# Altium footprint library con-cypressindustries.PCBLIB: 27 footprints (part 1 of 2)
Each footprint in its own frame and in the unit in brackets; x right, y up, seen from the top. Pads: shape width x height; smd on the part's side, far side on the other; paste and mask are expansions set on the pad; w line width, h text height; cw(c..) or ccw(c..) is an arc to the next point about the centre after c.
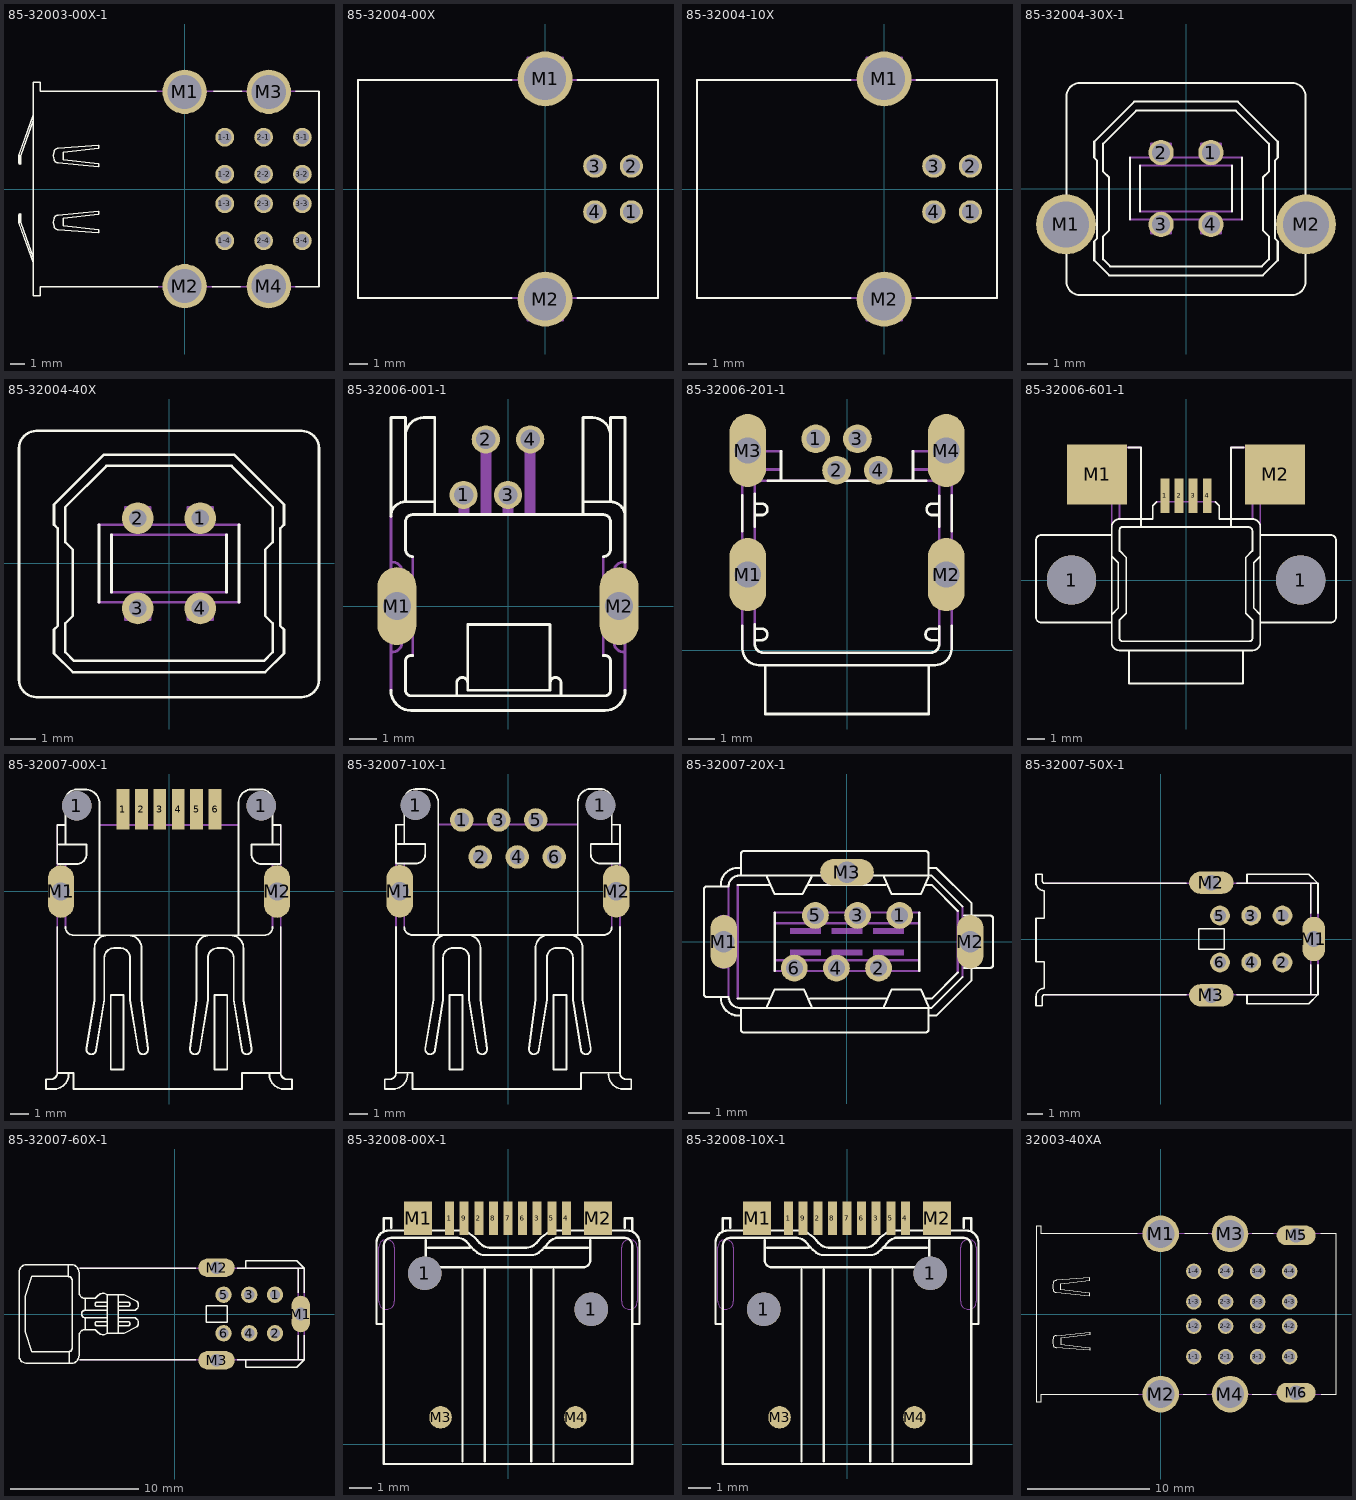
[diagram p0: the footprints below, top view; thin cyan lines are the x and y axes]

## 85-32003-00X-1 [mm]
pads (16):
  round 1.27 hole 0.92: 1-1(2.71,3.5) 1-2(2.71,1) 1-3(2.71,-1) 1-4(2.71,-3.5) 2-1(5.33,3.5) 2-2(5.33,1) 2-3(5.33,-1) 2-4(5.33,-3.5) 3-1(7.95,3.5) 3-2(7.95,1) 3-3(7.95,-1) 3-4(7.95,-3.5)
  round 3 hole 2.3: M1(0,6.57) M2(0,-6.57) M3(5.68,6.57) M4(5.68,-6.57)
Top Overlay:
  lines w0.102: -10.225,-4.625 -11.075,-2.25 -11.075,-1.75 ccw(c-11.137,-1.75) -11.2,-1.75 -11.2,-2.325 -10.225,-4.975 ; -1.925,6.6 -9.775,6.6 -9.775,7.2 -10.225,7.2 -10.225,5 ; -1.825,-6.6 -9.775,-6.6 -9.775,-7.2 -10.225,-7.2 -10.225,-4.975 ; 1.85,-6.6 3.75,-6.6 ; 1.975,6.6 3.85,6.6 ; 7.5,-6.6 9.075,-6.6 9.075,6.6 7.5,6.6 ; -10.225,-4.975 -10.225,4.625 ; -10.225,4.625 -10.225,5 ; -10.225,4.625 -11.075,2.25 -11.075,1.75 cw(c-11.137,1.75) -11.2,1.75 -11.2,2.325 -10.225,5 ; -8.828,-2.544 ccw(c-8.546,-2.457) -8.568,-2.751 -5.817,-2.959 -5.817,-2.751 -8.205,-2.492 -8.205,-1.973 -5.817,-1.713 -5.817,-1.505 -8.568,-1.765 ccw(c-8.546,-2.059) -8.828,-1.973 ccw(c-7.897,-2.258) -8.828,-2.544 ; -8.828,1.973 cw(c-7.897,2.258) -8.828,2.544 cw(c-8.546,2.457) -8.568,2.751 -5.817,2.959 -5.817,2.751 -8.205,2.492 -8.205,1.973 -5.817,1.713 -5.817,1.505 -8.568,1.765 cw(c-8.546,2.059) -8.828,1.973
Mechanical 16:
  lines w0.102: -1.925,6.6 1.975,6.6 ; -1.825,-6.6 1.85,-6.6 ; 3.75,-6.6 7.5,-6.6 ; 3.85,6.6 7.5,6.6

## 85-32004-00X [mm]
pads (6):
  round 1.27 hole 0.92: 1(4.71,-1.25) 2(4.71,1.25) 3(2.71,1.25) 4(2.71,-1.25)
  round 3 hole 2.3: M1(0,6.02) M2(0,-6.02)
Top Overlay:
  lines w0.102: -1.837,-5.962 -10.225,-5.962 -10.225,5.962 -1.837,5.962 ; 1.775,-5.962 6.163,-5.962 6.163,5.962 1.775,5.962
Mechanical 16:
  lines w0.102: -10.225,-5.962 6.163,-5.962 ; -10.225,5.962 6.163,5.962 ; -1.15,-6.012 -0.975,-7.175 0.975,-7.175 1.137,-6.025 ; -1.137,6.025 -0.975,7.175 0.975,7.175 1.15,6.012

## 85-32004-10X [mm]
pads (6):
  round 1.27 hole 0.92: 1(4.71,-1.25) 2(4.71,1.25) 3(2.71,1.25) 4(2.71,-1.25)
  round 3 hole 2.3: M1(0,6.02) M2(0,-6.02)
Top Overlay:
  lines w0.102: -1.837,-5.962 -10.225,-5.962 -10.225,5.962 -1.837,5.962 ; 1.775,-5.962 6.163,-5.962 6.163,5.962 1.775,5.962
Mechanical 16:
  lines w0.102: -10.225,-5.962 6.163,-5.962 ; -10.225,5.962 6.163,5.962 ; -1.15,-6.012 -0.975,-7.175 0.975,-7.175 1.137,-6.025 ; -1.137,6.025 -0.975,7.175 0.975,7.175 1.15,6.012

## 85-32004-30X-1 [mm]
pads (6):
  round 1.27 hole 0.92: 1(1.25,1.8) 2(-1.25,1.8) 3(-1.25,-1.8) 4(1.25,-1.8)
  round 3 hole 2.3: M1(-6.02,-1.8) M2(6.02,-1.8)
Top Overlay:
  lines w0.102: -5.3,5.3 ccw(c-5.3,4.6) -6,4.6 -6,-4.65 ccw(c-5.3,-4.65) -5.3,-5.35 5.3,-5.35 ccw(c5.3,-4.65) 6,-4.65 6,4.6 ccw(c5.3,4.6) 5.3,5.3 -5.25,5.3 ; -2.8,-1.55 -2.8,1.55 ; -2.3,-1.15 -2.3,1.15 ; 2.3,-1.15 2.3,1.15 ; 2.8,-1.55 2.8,1.55 ; -4.6,-3.6 -3.85,-4.35 3.85,-4.35 4.6,-3.6 4.6,-2.65 4.45,-2.5 4.45,1.4 4.6,1.55 4.6,2.35 2.6,4.35 -2.6,4.35 -4.6,2.35 -4.6,1.55 -4.45,1.4 -4.45,-2.5 -4.6,-2.65 -4.6,-3.6 ; -4.15,-3.55 -3.8,-3.9 3.8,-3.9 4.15,-3.55 4.15,-2.4 3.85,-2.1 3.85,0.55 4.15,0.85 4.15,2.25 2.5,3.9 -2.5,3.9 -4.15,2.25 -4.15,0.85 -3.85,0.55 -3.85,-2.1 -4.15,-2.4 -4.15,-3.55
Mechanical 16:
  lines w0.102: -2.8,-1.55 2.8,-1.55 ; -2.8,1.55 2.8,1.55 ; -2.3,-1.15 2.3,-1.15 ; -2.3,1.15 2.3,1.15 ; -1.75,-1.6 -1.75,-2.25 -0.75,-2.25 -0.75,-1.6 ; -1.75,1.6 -1.75,2.25 -0.75,2.25 -0.75,1.6 ; 0.75,-1.6 0.75,-2.25 1.75,-2.25 1.75,-1.6 ; 0.75,1.6 0.75,2.25 1.75,2.25 1.75,1.6

## 85-32004-40X [mil]
pads (4):
  round 50 hole 27.56: 1(49.21,70.87) 2(-49.21,70.87) 3(-49.21,-70.87) 4(49.21,-70.87)
Top Overlay:
  lines w4: -208.66,208.66 ccw(c-208.66,181.1) -236.22,181.1 -236.22,-183.07 ccw(c-208.66,-183.07) -208.66,-210.63 208.66,-210.63 ccw(c208.66,-183.07) 236.22,-183.07 236.22,181.1 ccw(c208.66,181.1) 208.66,208.66 -206.69,208.66 ; -110.24,-61.02 -110.24,61.02 ; -90.55,-45.28 -90.55,45.28 ; 90.55,-45.28 90.55,45.28 ; 110.24,-61.02 110.24,61.02 ; -181.1,-141.73 -151.57,-171.26 151.57,-171.26 181.1,-141.73 181.1,-104.33 175.2,-98.43 175.2,55.12 181.1,61.02 181.1,92.52 102.36,171.26 -102.36,171.26 -181.1,92.52 -181.1,61.02 -175.2,55.12 -175.2,-98.43 -181.1,-104.33 -181.1,-141.73 ; -163.39,-139.76 -149.61,-153.54 149.61,-153.54 163.39,-139.76 163.39,-94.49 151.57,-82.68 151.57,21.65 163.39,33.46 163.39,88.58 98.43,153.54 -98.43,153.54 -163.39,88.58 -163.39,33.46 -151.57,21.65 -151.57,-82.68 -163.39,-94.49 -163.39,-139.76
Mechanical 16:
  lines w4: -110.24,-61.02 110.24,-61.02 ; -110.24,61.02 110.24,61.02 ; -90.55,-45.28 90.55,-45.28 ; -90.55,45.28 90.55,45.28 ; -68.9,-62.99 -68.9,-88.58 -29.53,-88.58 -29.53,-62.99 ; -68.9,62.99 -68.9,88.58 -29.53,88.58 -29.53,62.99 ; 29.53,-62.99 29.53,-88.58 68.9,-88.58 68.9,-62.99 ; 29.53,62.99 29.53,88.58 68.9,88.58 68.9,62.99

## 85-32006-001-1 [mil]
pads (6):
  round 40 hole 27.56: 1(-62.99,157.48) 2(-31.5,236.22) 3(0,157.48) 4(31.5,236.22)
  oval 55.12x110.24 hole 39.37: M1(-157.48,0) M2(157.48,0)
Top Overlay:
  lines w4: -134.89,-70.04 -137.49,-70.04 ccw(c-137.49,-77.83) -145.27,-77.83 -145.27,-119.33 ccw(c-137.49,-119.33) -137.49,-127.11 137.49,-127.11 ccw(c137.49,-119.33) 145.27,-119.33 145.27,-77.83 ccw(c137.5,-77.81) 137.49,-70.04 134.9,-70.04 ; -134.89,70.04 cw(c-134.89,80.42) -145.27,80.42 -145.27,119.33 cw(c-134.9,119.33) -134.89,129.7 106.36,129.7 ; -103.76,132.3 -103.76,147.87 ; -72.63,-124.52 -72.63,-108.95 cw(c-64.85,-108.95) -57.07,-108.95 ; 75.23,-124.52 75.23,-108.95 ccw(c67.45,-108.95) 59.67,-108.95 ; 134.89,70.04 ccw(c134.89,80.42) 145.27,80.42 145.27,119.33 ccw(c134.9,119.33) 134.89,129.7 106.36,129.7 ; 145.28,147.87 cw(c145.28,127.11) 166.03,127.11 ; 166.02,-119.33 cw(c137.49,-119.33) 137.49,-147.87 -137.49,-147.87 cw(c-137.49,-119.33) -166.02,-119.33 ; 166.02,62.26 166.02,267.2 145.27,267.2 145.27,241.26 ; -166.02,-119.33 -166.02,-119.33 ; -166.02,127.11 -166.02,267.2 -145.27,267.2 -145.27,241.26 ; -166.02,127.11 cw(c-145.26,127.11) -145.27,147.87 ; -166.02,127.11 -166.02,127.11 ; -145.27,147.87 -145.27,241.26 ; -145.27,147.87 -103.76,147.87 ; -145.27,241.26 cw(c-119.33,241.26) -119.33,267.2 -103.76,267.2 -103.76,147.87 ; -57.07,-108.95 -57.07,-25.94 59.67,-25.94 59.67,-108.95 ; -57.07,-108.95 -57.07,-119.33 59.67,-119.33 59.67,-108.95 ; 106.36,129.7 106.36,147.87 ; 106.36,147.87 106.36,267.2 119.33,267.2 cw(c119.33,241.26) 145.27,241.26 ; 106.36,147.87 145.27,147.87 145.27,241.26
Mechanical 11:
  lines w0: -177.17,-29.53 ccw(c-157.49,-29.52) -157.48,-49.21 ccw(c-157.48,-29.53) -137.8,-29.53 -137.8,29.53 ccw(c-157.48,29.53) -157.48,49.21 ccw(c-157.49,29.52) -177.17,29.53 -177.17,-29.53 ; 137.8,-29.53 ccw(c157.48,-29.53) 157.48,-49.21 ccw(c157.49,-29.52) 177.17,-29.53 177.17,29.53 ccw(c157.49,29.52) 157.48,49.21 ccw(c157.48,29.53) 137.8,29.53 137.8,-29.53
Mechanical 16:
  rectangle: -70.04,129.71 -54.48,168.62
  rectangle: -7.78,129.71 7.78,168.62
  rectangle: -38.91,129.71 -23.35,246.44
  rectangle: 23.35,129.71 38.91,246.44
  lines w4: -166.02,-119.33 -166.02,127.11 ; -163.43,-64.85 ccw(c-163.43,-51.88) -150.46,-51.89 -150.46,49.29 ccw(c-163.43,49.29) -163.43,62.26 ; -134.89,-70.04 -134.89,70.04 ; 134.9,-70.04 134.9,70.04 ; 163.43,-64.85 cw(c163.43,-51.88) 150.46,-51.88 150.46,49.29 cw(c163.43,49.29) 163.43,62.26 ; 166.02,-119.33 166.02,62.26

## 85-32006-201-1 [mm]
pads (8):
  round 1.1 hole 0.7: 1(-1.2,8.1) 2(-0.4,6.9) 3(0.4,8.1) 4(1.2,6.9)
  oval 1.4x2.8 hole 1: M1(-3.8,2.9) M2(3.8,2.9) M3(-3.8,7.65) M4(3.8,7.65)
Top Overlay:
  lines w0.102: -4.006,0.945 -4.006,0.069 ccw(c-3.371,0.069) -3.371,-0.566 3.371,-0.566 ccw(c3.371,0.069) 4.006,0.069 4.006,0.945 ; -4.006,4.569 -4.006,5.945 ; -3.527,0.989 -3.527,0.23 ccw(c-3.21,0.23) -3.21,-0.087 3.21,-0.087 ccw(c3.21,0.23) 3.527,0.23 3.527,0.924 ; -3.527,4.73 -3.527,5.989 ; -3.484,0.392 -3.266,0.392 ccw(c-3.266,0.61) -3.266,0.827 -3.484,0.827 ; -3.484,5.182 -3.266,5.182 ccw(c-3.266,5.4) -3.266,5.618 -3.484,5.618 ; -3.135,-0.61 -3.135,-2.439 3.135,-2.439 3.135,-0.61 ; -3.027,6.489 3.027,6.489 ; -2.526,6.532 -2.526,7.621 ; 2.526,6.489 2.526,7.621 ; 3.44,0.392 3.222,0.392 cw(c3.222,0.61) 3.222,0.827 3.44,0.827 ; 3.484,5.182 3.266,5.182 cw(c3.266,5.4) 3.266,5.618 3.484,5.618 ; 3.527,4.73 3.527,5.924 ; 4.006,4.569 4.006,5.945
Mechanical 11:
  lines w0: -4.3,2.4 ccw(c-3.8,2.4) -3.8,1.9 ccw(c-3.8,2.4) -3.3,2.4 -3.3,3.4 ccw(c-3.8,3.4) -3.8,3.9 ccw(c-3.8,3.4) -4.3,3.4 -4.3,2.4 ; -4.3,7.15 ccw(c-3.8,7.15) -3.8,6.65 ccw(c-3.8,7.15) -3.3,7.15 -3.3,8.15 ccw(c-3.8,8.15) -3.8,8.65 ccw(c-3.8,8.15) -4.3,8.15 -4.3,7.15 ; 3.3,2.4 ccw(c3.8,2.4) 3.8,1.9 ccw(c3.8,2.4) 4.3,2.4 4.3,3.4 ccw(c3.8,3.4) 3.8,3.9 ccw(c3.8,3.4) 3.3,3.4 3.3,2.4 ; 3.3,7.15 ccw(c3.8,7.15) 3.8,6.65 ccw(c3.8,7.15) 4.3,7.15 4.3,8.15 ccw(c3.8,8.15) 3.8,8.65 ccw(c3.8,8.15) 3.3,8.15 3.3,7.15
Mechanical 16:
  lines w0.102: -4.006,0.069 -4.006,6.445 ; -3.527,0.23 -3.527,6.489 ; -2.569,6.924 -3.527,6.924 ccw(c-3.527,6.445) -4.006,6.445 ; -2.526,7.621 -3.527,7.621 ; 2.526,7.621 3.527,7.621 ; 2.569,6.924 3.527,6.924 ; 3.527,0.23 3.527,6.924 ; 3.527,6.489 -3.527,6.489 ; 3.527,8.666 3.527,6.924 ; 3.571,8.666 4.006,8.666 4.006,6.445 ; 4.006,0.069 4.006,6.445 ; -4.006,6.445 -4.006,8.666 -3.527,8.666 -3.527,7.621 ; -3.527,6.489 -3.527,7.621 ; 3.527,6.924 cw(c3.527,6.445) 4.006,6.445

## 85-32006-601-1 [mm]
pads (8):
  round 2.8 hole 2.8: 1(-6.5,0) 1(6.5,0)
  rect 0.5x1.95 smd: 1(-1.2,4.775) 2(-0.4,4.775) 3(0.4,4.775) 4(1.2,4.775)
  rect 3.4x3.4 smd: M1(-5.05,6) M2(5.05,6)
Top Overlay:
  lines w0.102: -4.221,-2.414 -8.214,-2.414 cw(c-8.214,-2.112) -8.515,-2.112 -8.515,2.257 cw(c-8.214,2.257) -8.214,2.558 -4.221,2.558 ; -3.268,7.53 -2.564,7.53 -2.564,3.462 ; -3.242,-4.071 -3.242,-5.879 3.236,-5.879 3.236,-4.071 ; -1.66,4.442 -1.886,4.216 -1.886,3.462 -2.564,3.462 ; 1.654,4.442 1.88,4.216 1.88,3.462 2.558,3.462 ; 2.634,3.462 3.764,3.462 cw(c3.764,3.01) 4.216,3.01 4.216,2.558 ; 3.262,7.53 2.558,7.53 2.558,3.462 ; 4.215,-1.961 3.839,-1.585 3.839,0.976 4.215,1.353 ; -4.221,-1.961 -4.221,1.353 ; -4.221,-1.961 -4.221,-3.543 ccw(c-3.769,-3.543) -3.769,-3.995 3.764,-3.995 ccw(c3.763,-3.543) 4.215,-3.543 4.216,-2.414 ; -4.221,-1.961 -3.845,-1.585 -3.845,0.976 -4.221,1.353 ; -4.221,1.353 -4.221,3.01 cw(c-3.769,3.01) -3.769,3.462 -2.564,3.462 ; -2.564,3.01 -3.619,3.01 ccw(c-3.619,2.86) -3.769,2.86 -3.769,1.654 -3.393,1.278 -3.393,-1.886 -3.769,-2.263 -3.769,-3.317 ccw(c-3.619,-3.317) -3.619,-3.468 3.613,-3.468 ccw(c3.613,-3.317) 3.764,-3.317 3.764,-2.263 3.387,-1.886 3.387,1.278 3.764,1.654 3.764,2.784 ccw(c3.538,2.784) 3.538,3.01 2.558,3.01 ; -2.564,3.01 2.558,3.01 ; -2.564,3.01 -2.564,3.462 ; 2.558,3.01 2.558,3.462 ; 4.216,-2.414 4.216,2.558 ; 4.216,-2.414 8.208,-2.414 ccw(c8.208,-2.112) 8.51,-2.112 8.51,2.257 ccw(c8.208,2.257) 8.208,2.558 4.216,2.558
Mechanical 16:
  rectangle: -1.4,4.45 -1,5.7
  rectangle: -0.6,4.45 -0.2,5.7
  rectangle: 0.2,4.45 0.6,5.7
  rectangle: 1,4.45 1.4,5.7
  lines w0.102: -6.256,6.777 -6.256,7.229 cw(c-5.954,7.229) -5.954,7.53 -4.221,7.53 ; -6.255,6.777 cw(c-6.255,6.024) -5.502,6.024 cw(c-6.255,6.024) -6.255,5.27 -6.255,4.743 ccw(c-5.954,4.743) -5.954,4.442 -4.221,4.442 ; -4.221,3.01 -4.221,4.442 ; -3.769,3.538 -3.769,7.229 cw(c-3.468,7.229) -3.468,7.53 ; -2.564,7.53 -3.468,7.53 ; -1.66,4.442 1.654,4.442 ; 2.558,7.53 3.462,7.53 ; 3.764,3.462 3.764,7.229 ccw(c3.462,7.229) 3.462,7.53 ; 4.216,3.01 4.216,4.442 ; -4.221,4.442 -4.221,7.53 ; -4.221,7.53 -3.468,7.53 ; 3.462,7.53 4.215,7.53 ; 4.216,4.442 4.216,7.53 ; 4.216,4.442 5.948,4.442 ccw(c5.948,4.743) 6.249,4.743 6.249,5.27 cw(c6.25,6.023) 5.496,6.024 cw(c6.25,6.024) 6.249,6.777 6.249,7.229 ccw(c5.948,7.229) 5.948,7.53 4.216,7.53

## 85-32007-00X-1 [mil]
pads (10):
  round 62.99 hole 62.99: 1(-196.85,183.07) 1(196.85,183.07)
  rect 27.56x86.61 smd: 1(-98.43,175.2) 2(-59.06,175.2) 3(-19.69,175.2) 4(19.69,175.2) 5(59.06,175.2) 6(98.43,175.2)
  oval 56x112 hole 39.37: M1(-230.32,0) M2(230.32,0)
Top Overlay:
  lines w4: -238.13,-75.82 -238.13,-386.54 ; -238.13,59.59 -238.13,141.5 -220.88,141.5 ; -236.65,58.67 -198.2,58.67 ; -234.68,100.09 -176.01,100.09 -176.01,79.38 cw(c-196.72,79.38) -196.72,58.67 ; -220.88,-75.92 ccw(c-203.62,-75.92) -203.62,-93.18 -148.4,-93.18 ; -220.88,100.09 -220.88,141.5 ; -213.97,-389.99 cw(c-245.03,-389.99) -245.04,-421.05 -262.29,-421.05 -262.29,-400.34 -251.94,-400.34 ccw(c-251.94,-386.54) -238.13,-386.54 ; -86.28,-93.19 cw(c-86.28,-120.8) -58.67,-120.8 -58.67,-231.23 -44.86,-334.77 cw(c-55.21,-336.54) -65.57,-338.22 -82.83,-231.23 -82.83,-141.5 ccw(c-103.54,-141.5) -103.54,-120.79 -117.34,-120.79 ccw(c-117.34,-141.5) -138.05,-141.5 -138.05,-231.23 -155.3,-338.22 cw(c-165.66,-336.54) -176.01,-334.77 -158.75,-231.23 -158.75,-120.79 cw(c-131.14,-120.79) -131.14,-93.18 -89.73,-93.18 ; 58.67,-120.79 cw(c86.28,-120.79) 86.28,-93.18 ; 58.68,-117.34 58.68,-231.23 44.87,-334.77 ccw(c55.22,-336.54) 65.58,-338.22 82.83,-231.23 82.83,-141.5 cw(c103.53,-141.5) 103.54,-120.8 117.35,-120.79 cw(c117.35,-141.5) 138.06,-141.5 138.06,-231.23 155.31,-338.22 ccw(c165.67,-336.54) 176.02,-334.77 158.76,-231.23 158.76,-120.79 ccw(c131.15,-120.79) 131.15,-93.18 ; 82.84,-93.18 86.28,-93.18 ; 176.02,217.43 ccw(c176.01,189.83) 148.41,189.82 148.41,-93.18 ; 176.03,217.43 196.72,217.43 cw(c196.73,193.27) 220.89,193.27 220.89,103.54 ; 213.98,-389.99 ccw(c245.04,-389.99) 245.04,-421.05 262.3,-421.05 262.3,-400.34 251.94,-400.34 cw(c251.94,-386.54) 238.14,-386.54 ; 220.89,-75.93 cw(c203.63,-75.92) 203.63,-93.18 148.41,-93.18 ; 220.89,141.5 238.14,141.5 238.14,59.59 ; 234.69,100.09 176.02,100.09 176.02,79.38 ccw(c196.72,79.38) 196.72,58.67 236.66,58.67 ; 238.14,-75.82 238.14,-386.54 ; -238.13,-386.54 -203.62,-386.54 -203.62,-421.05 155.31,-421.05 155.31,-386.54 238.14,-386.54 ; -220.88,141.5 -220.88,193.27 cw(c-196.72,193.27) -196.72,217.43 -176.01,217.43 cw(c-177.74,188.09) -148.4,186.37 -148.4,-93.18 ; -148.4,-93.18 -89.73,-93.18 ; -89.73,-93.18 86.28,-93.18 ; 86.28,-93.18 148.41,-93.18 ; -124.24,-379.64 -96.63,-379.64 -96.63,-220.88 -124.24,-220.88 -124.24,-379.64 ; 96.64,-379.64 96.64,-220.88 124.25,-220.88 124.25,-379.64 96.64,-379.64
Mechanical 11:
  lines w0: -250,-9.84 -250,-29.53 ccw(c-230.32,-29.53) -230.32,-49.21 ccw(c-230.31,-29.52) -210.63,-29.53 -210.63,29.53 ccw(c-230.31,29.52) -230.32,49.21 ccw(c-230.32,29.53) -250,29.53 -250,0 ; 210.63,-9.84 210.63,-29.53 ccw(c230.31,-29.52) 230.32,-49.21 ccw(c230.32,-29.53) 250,-29.53 250,29.53 ccw(c230.32,29.53) 230.32,49.21 ccw(c230.31,29.52) 210.63,29.53 210.63,0
Mechanical 16:
  lines w4: -238.13,-386.54 -238.13,-20.7 ; -238.13,141.5 -238.13,24.16 ; -220.88,-75.92 -220.88,58.67 ; -145.67,141.73 -108.27,141.73 -108.27,187.01 -88.58,187.01 -88.58,141.73 -68.9,141.73 -68.9,187.01 -49.21,187.01 -49.21,141.73 -29.53,141.73 -29.53,187.01 -9.84,187.01 -9.84,141.73 9.84,141.73 9.84,187.01 29.53,187.01 29.53,141.73 49.21,141.73 49.21,187.01 68.9,187.01 68.9,141.73 88.58,141.73 88.58,187.01 108.27,187.01 108.27,141.73 145.67,141.73 ; 220.89,-75.93 220.89,58.67 ; 238.14,-386.54 238.14,-20.7 ; 238.14,141.5 238.14,24.16 ; -238.13,-20.7 -238.13,24.16 ; -238.13,-20.7 -255.39,-20.7 -255.39,24.16 -238.13,24.16 ; 238.14,-20.7 238.14,24.16 ; 238.14,-20.7 255.4,-20.7 255.4,24.16 238.14,24.16

## 85-32007-10X-1 [mil]
pads (10):
  round 62.99 hole 62.99: 1(-196.85,183.07) 1(196.85,183.07)
  round 50 hole 31.5: 1(-98.43,151.57) 2(-59.06,72.83) 3(-19.69,151.57) 4(19.69,72.83) 5(59.06,151.57) 6(98.43,72.83)
  oval 56x112 hole 39.37: M1(-230.32,0) M2(230.32,0)
Top Overlay:
  lines w4: -238.13,-75.82 -238.13,-386.54 ; -238.13,59.59 -238.13,141.5 -220.88,141.5 ; -236.65,58.67 -198.2,58.67 ; -234.68,100.09 -176.01,100.09 -176.01,79.38 cw(c-196.72,79.38) -196.72,58.67 ; -220.88,-75.92 ccw(c-203.62,-75.92) -203.62,-93.18 -148.4,-93.18 ; -220.88,100.09 -220.88,141.5 ; -213.97,-389.99 cw(c-245.03,-389.99) -245.04,-421.05 -262.29,-421.05 -262.29,-400.34 -251.94,-400.34 ccw(c-251.94,-386.54) -238.13,-386.54 ; -86.28,-93.19 cw(c-86.28,-120.8) -58.67,-120.8 -58.67,-231.23 -44.86,-334.77 cw(c-55.21,-336.54) -65.57,-338.22 -82.83,-231.23 -82.83,-141.5 ccw(c-103.54,-141.5) -103.54,-120.79 -117.34,-120.79 ccw(c-117.34,-141.5) -138.05,-141.5 -138.05,-231.23 -155.3,-338.22 cw(c-165.66,-336.54) -176.01,-334.77 -158.75,-231.23 -158.75,-120.79 cw(c-131.14,-120.79) -131.14,-93.18 -89.73,-93.18 ; 58.67,-120.79 cw(c86.28,-120.79) 86.28,-93.18 ; 58.68,-117.34 58.68,-231.23 44.87,-334.77 ccw(c55.22,-336.54) 65.58,-338.22 82.83,-231.23 82.83,-141.5 cw(c103.53,-141.5) 103.54,-120.8 117.35,-120.79 cw(c117.35,-141.5) 138.06,-141.5 138.06,-231.23 155.31,-338.22 ccw(c165.67,-336.54) 176.02,-334.77 158.76,-231.23 158.76,-120.79 ccw(c131.15,-120.79) 131.15,-93.18 ; 82.84,-93.18 86.28,-93.18 ; 176.02,217.43 ccw(c176.01,189.83) 148.41,189.82 148.41,-93.18 ; 176.03,217.43 196.72,217.43 cw(c196.73,193.27) 220.89,193.27 220.89,103.54 ; 213.98,-389.99 ccw(c245.04,-389.99) 245.04,-421.05 262.3,-421.05 262.3,-400.34 251.94,-400.34 cw(c251.94,-386.54) 238.14,-386.54 ; 220.89,-75.93 cw(c203.63,-75.92) 203.63,-93.18 148.41,-93.18 ; 220.89,141.5 238.14,141.5 238.14,59.59 ; 234.69,100.09 176.02,100.09 176.02,79.38 ccw(c196.72,79.38) 196.72,58.67 236.66,58.67 ; 238.14,-75.82 238.14,-386.54 ; -238.13,-386.54 -203.62,-386.54 -203.62,-421.05 155.31,-421.05 155.31,-386.54 238.14,-386.54 ; -220.88,141.5 -220.88,193.27 cw(c-196.72,193.27) -196.72,217.43 -176.01,217.43 cw(c-177.74,188.09) -148.4,186.37 -148.4,-93.18 ; -148.4,-93.18 -89.73,-93.18 ; -89.73,-93.18 86.28,-93.18 ; 86.28,-93.18 148.41,-93.18 ; -124.24,-379.64 -96.63,-379.64 -96.63,-220.88 -124.24,-220.88 -124.24,-379.64 ; 96.64,-379.64 96.64,-220.88 124.25,-220.88 124.25,-379.64 96.64,-379.64
Mechanical 11:
  lines w0: -250,-9.84 -250,-29.53 ccw(c-230.32,-29.53) -230.32,-49.21 ccw(c-230.31,-29.52) -210.63,-29.53 -210.63,29.53 ccw(c-230.31,29.52) -230.32,49.21 ccw(c-230.32,29.53) -250,29.53 -250,0 ; 210.63,-9.84 210.63,-29.53 ccw(c230.31,-29.52) 230.32,-49.21 ccw(c230.32,-29.53) 250,-29.53 250,29.53 ccw(c230.32,29.53) 230.32,49.21 ccw(c230.31,29.52) 210.63,29.53 210.63,0
Mechanical 16:
  lines w4: -238.14,-386.54 -238.14,-20.7 ; -238.14,141.5 -238.14,24.16 ; -220.89,-75.93 -220.89,58.67 ; -145.67,141.73 145.67,141.73 ; 220.88,-75.92 220.88,58.67 ; 238.13,-386.54 238.13,-20.7 ; 238.13,141.5 238.13,24.16 ; -238.14,-20.7 -238.14,24.16 ; -238.14,-20.7 -255.4,-20.7 -255.4,24.16 -238.14,24.16 ; 238.13,-20.7 238.13,24.16 ; 238.13,-20.7 255.39,-20.7 255.39,24.16 238.13,24.16

## 85-32007-20X-1 [mil]
pads (9):
  round 50 hole 31.5: 1(98.43,49.21) 2(59.06,-49.21) 3(19.69,49.21) 4(-19.69,-49.21) 5(-59.06,49.21) 6(-98.43,-49.21)
  oval 50x100 hole 39.37: M1(-230.32,0) M2(230.32,0)
  oval 100x50 hole 39.37: M3(0,129.92)
Top Overlay:
  lines w4: -235.72,106.36 cw(c-204.1,106.36) -204.1,137.98 -201.22,137.98 ; -204.1,-106.36 -143.73,-106.36 ; -204.1,106.36 -143.73,106.36 ; -149.48,-120.74 -135.11,-89.11 -80.49,-89.11 -66.12,-120.74 ; -149.48,120.74 -135.11,89.11 -83.37,89.11 -66.12,120.74 ; -135.11,-54.62 -135.11,54.62 ; -71.87,106.36 71.87,106.36 ; -68.99,-106.36 74.74,-106.36 ; 68.99,-120.74 83.37,-89.11 137.98,-89.11 152.35,-120.74 ; 68.99,120.74 83.36,89.11 137.98,89.11 152.35,120.74 ; 135.11,-54.62 135.11,54.62 ; 146.61,-106.36 158.1,-106.36 ; 146.61,106.36 158.11,106.36 206.97,57.49 ; 155.23,-137.98 166.73,-137.98 232.85,-71.86 232.85,-48.87 ; 155.23,-106.36 158.1,-106.36 ; 155.23,123.61 158.11,123.61 215.6,66.12 ; 155.23,137.98 166.73,137.98 232.85,71.87 232.85,51.74 ; 206.97,-57.49 158.1,-106.36 ; 215.6,-66.11 158.1,-123.61 152.35,-123.61 ; 218.47,-48.87 267.34,-48.87 ccw(c267.34,-43.12) 273.09,-43.12 273.09,43.12 ccw(c267.34,43.12) 267.34,48.87 218.47,48.87 ; -235.72,-103.48 -221.35,-103.48 ccw(c-199.8,-102.06) -198.35,-123.61 ; -235.72,-103.48 -261.59,-103.48 cw(c-261.6,-97.73) -267.34,-97.74 -267.34,97.74 cw(c-261.59,97.74) -261.59,103.49 -221.35,103.49 cw(c-201.22,103.48) -201.22,123.61 -198.35,123.61 ; -235.72,-103.48 ccw(c-202.65,-104.91) -204.09,-137.98 -198.35,-137.98 ; -198.35,-137.98 -198.35,-163.85 ccw(c-192.6,-163.85) -192.6,-169.6 146.61,-169.6 ccw(c146.6,-163.85) 152.35,-163.85 152.35,-123.61 ; -198.35,-137.98 -198.35,-123.61 ; -198.35,-123.61 152.35,-123.61 ; -198.35,-123.61 -198.35,-123.61 ; -198.35,123.61 152.35,123.61 152.35,163.85 ccw(c146.6,163.87) 146.61,169.61 -192.6,169.61 ccw(c-192.6,163.86) -198.35,163.86 -198.35,123.61
Mechanical 11:
  lines w0: -250,-29.53 ccw(c-230.32,-29.53) -230.32,-49.21 ccw(c-230.31,-29.52) -210.63,-29.53 -210.63,29.53 ccw(c-230.31,29.52) -230.32,49.21 ccw(c-230.32,29.53) -250,29.53 -250,-29.53 ; -49.21,127.95 ccw(c-29.53,127.95) -29.53,108.27 29.53,108.27 ccw(c29.53,127.95) 49.21,127.95 ccw(c29.52,127.95) 29.53,147.64 -29.53,147.64 ccw(c-29.52,127.95) -49.21,127.95 ; 210.63,-29.53 ccw(c230.31,-29.52) 230.32,-49.21 ccw(c230.32,-29.53) 250,-29.53 250,29.53 ccw(c230.32,29.53) 230.32,49.21 ccw(c230.31,29.52) 210.63,29.53 210.63,-29.53
Mechanical 16:
  rectangle: -106.36,14.37 -48.87,25.87
  rectangle: -28.75,14.37 28.74,25.87
  rectangle: 48.87,14.37 106.36,25.87
  rectangle: -106.36,-25.87 -48.87,-14.37
  rectangle: -28.75,-25.87 28.74,-14.37
  rectangle: 48.87,-25.87 106.36,-14.37
  lines w4: -221.35,-103.48 -221.35,103.49 ; -204.1,-106.36 -204.1,106.36 ; -135.11,-54.62 135.11,-54.62 ; -135.11,54.62 135.11,54.62 ; -132.23,-34.49 132.23,-34.49 ; -132.23,34.5 132.23,34.5 ; 206.97,-57.49 206.97,57.49 ; 215.6,-66.11 215.6,66.12

## 85-32007-50X-1 [mil]
pads (9):
  round 50 hole 31.5: 1(307.09,59.06) 2(307.09,-59.06) 3(228.35,59.06) 4(228.35,-59.06) 5(149.61,59.06) 6(149.61,-59.06)
  oval 56x112 hole 39.37: M1(385.83,0)
  oval 112x56 hole 39.37: M2(127.95,141.73) M3(127.95,-141.73)
Top Overlay:
  lines w4: -313.54,137.33 -313.54,142.52 ; 64.78,-139.93 -290.22,-139.93 ccw(c-290.23,-147.71) -298,-147.7 -298,-165.84 cw(c-300.59,-165.84) -300.59,-168.43 -313.54,-168.43 -313.54,-145.11 cw(c-292.81,-145.1) -292.82,-124.38 -292.82,-57.01 -313.54,-57.01 -313.54,51.82 -292.82,51.82 -292.82,121.79 cw(c-292.81,142.51) -313.54,142.52 ; 64.78,139.93 -290.22,139.93 cw(c-290.23,147.71) -298,147.7 -298,163.25 -313.54,163.25 -313.54,142.52 ; 191.75,-139.93 396.46,-139.93 ; 191.74,139.93 396.46,139.93 ; 217.67,-142.52 217.67,-163.25 ; 217.67,142.52 217.67,163.25 373.14,163.25 396.46,139.93 ; 378.32,-139.93 378.32,-64.78 ; 378.32,64.78 378.32,137.33 ; 396.46,-64.78 396.46,-139.93 ; 396.46,64.78 396.46,139.93 ; 217.67,-163.25 217.67,-163.25 ; 217.67,-163.25 373.14,-163.25 396.46,-139.93 ; 95.87,-25.91 95.87,25.91 160.66,25.91 160.66,-25.91 95.87,-25.91
Mechanical 11:
  lines w0: 88.58,-141.73 ccw(c108.27,-141.73) 108.27,-161.42 147.64,-161.42 ccw(c147.63,-141.74) 167.32,-141.73 ccw(c147.64,-141.73) 147.64,-122.05 108.27,-122.05 ccw(c108.27,-141.74) 88.58,-141.73 ; 88.58,141.73 ccw(c108.27,141.74) 108.27,122.05 147.64,122.05 ccw(c147.64,141.73) 167.32,141.73 ccw(c147.63,141.74) 147.64,161.42 108.27,161.42 ccw(c108.27,141.73) 88.58,141.73 ; 366.14,-19.69 ccw(c385.82,-19.68) 385.83,-39.37 ccw(c385.83,-19.69) 405.51,-19.69 405.51,19.69 ccw(c385.83,19.69) 385.83,39.37 ccw(c385.82,19.68) 366.14,19.69 366.14,-19.69
Mechanical 16:
  lines w4: -290.22,-139.93 396.46,-139.93 396.46,139.93 -290.22,139.93 ; 378.32,-137.34 378.32,137.33

## 85-32007-60X-1 [mil]
pads (9):
  round 50 hole 31.5: 1(307.09,59.06) 2(307.09,-59.06) 3(228.35,59.06) 4(228.35,-59.06) 5(149.61,59.06) 6(149.61,-59.06)
  oval 56x112 hole 39.37: M1(385.83,0)
  oval 112x56 hole 39.37: M2(127.95,141.73) M3(127.95,-141.73)
Top Overlay:
  lines w4: -457.83,-53.63 -438.67,-114.93 -323.73,-114.93 ; -457.82,-53.63 -457.82,53.64 -438.67,114.94 -325.65,114.94 ; -325.65,149.42 -325.65,114.94 ; -323.73,-149.42 -323.73,-114.94 ; -290.22,-139.93 64.78,-139.93 ; -290.22,139.93 64.78,139.93 ; -208.8,-36.39 -237.53,-36.39 cw(c-237.53,-29.68) -237.53,-22.98 -208.8,-22.98 ; -208.79,-11.49 -273.93,-11.49 ; -208.8,11.5 -273.93,11.5 ; -208.8,22.99 -237.53,22.99 cw(c-237.53,29.7) -237.53,36.4 -208.8,36.4 ; -170.48,-36.39 -143.67,-36.39 ccw(c-143.67,-29.68) -143.67,-22.98 -170.48,-22.98 ; -170.48,-11.49 -126.42,-11.49 cw(c-126.42,-26.82) -111.1,-26.82 cw(c-122.29,-28.4) -116.85,-38.31 -155.16,-59.38 -172.4,-59.38 ; -170.48,11.5 -124.51,11.5 ; -170.48,22.99 -143.67,22.99 ccw(c-143.67,29.7) -143.67,36.4 -170.48,36.4 ; -126.43,11.5 ccw(c-126.42,26.82) -111.1,26.82 ccw(c-122.3,28.41) -116.85,38.32 -155.16,59.39 -172.4,59.39 ; 191.75,-139.93 396.46,-139.93 ; 191.74,139.93 396.46,139.93 ; 217.67,-142.52 217.67,-163.25 ; 217.67,142.52 217.67,163.25 373.14,163.25 396.46,139.93 ; 378.32,-139.93 378.32,-64.78 ; 378.32,64.78 378.32,137.33 ; 396.46,-64.78 396.46,-139.93 ; 396.46,64.78 396.46,139.93 ; -325.65,114.94 cw(c-325.65,103.44) -314.15,103.44 -314.15,-105.35 cw(c-323.73,-105.35) -323.73,-114.93 ; -273.93,-47.89 ccw(c-273.93,-67.04) -293.08,-67.04 -293.08,-126.43 cw(c-317.98,-126.43) -317.98,-151.33 -452.08,-151.33 cw(c-452.08,-126.43) -476.98,-126.43 -476.98,126.43 cw(c-452.08,126.43) -452.08,151.33 -317.99,151.33 cw(c-317.99,126.42) -293.08,126.43 -293.08,67.04 ccw(c-273.93,67.04) -273.93,47.89 ; -273.93,-47.89 -243.28,-47.89 -233.7,-57.46 ccw(c-219.18,-42.95) -206.88,-59.38 ; -273.93,-47.89 -273.93,-11.49 ; -273.93,-11.49 cw(c-273.93,0) -285.42,0 cw(c-273.93,0.01) -273.93,11.5 ; -273.93,11.5 -273.93,47.89 ; -273.93,47.89 -243.28,47.89 -233.7,57.47 cw(c-219.18,42.95) -206.88,59.39 ; -206.88,-59.39 -172.4,-59.39 ; -206.88,-59.39 -206.88,59.39 ; -206.88,59.39 -172.4,59.39 ; -172.4,-59.39 -172.4,59.39 ; 217.67,-163.25 217.67,-163.25 ; 217.67,-163.25 373.14,-163.25 396.46,-139.93 ; 95.87,-25.91 95.87,25.91 160.66,25.91 160.66,-25.91 95.87,-25.91
Mechanical 11:
  lines w0: 88.58,-141.73 ccw(c108.27,-141.73) 108.27,-161.42 147.64,-161.42 ccw(c147.63,-141.74) 167.32,-141.73 ccw(c147.64,-141.73) 147.64,-122.05 108.27,-122.05 ccw(c108.27,-141.74) 88.58,-141.73 ; 88.58,141.73 ccw(c108.27,141.74) 108.27,122.05 147.64,122.05 ccw(c147.64,141.73) 167.32,141.73 ccw(c147.63,141.74) 147.64,161.42 108.27,161.42 ccw(c108.27,141.73) 88.58,141.73 ; 366.14,-19.69 ccw(c385.82,-19.68) 385.83,-39.37 ccw(c385.83,-19.69) 405.51,-19.69 405.51,19.69 ccw(c385.83,19.69) 385.83,39.37 ccw(c385.82,19.68) 366.14,19.69 366.14,-19.69
Mechanical 16:
  lines w4: -290.22,-139.93 396.46,-139.93 396.46,139.93 -290.22,139.93 ; 378.32,-137.34 378.32,137.33

## 85-32008-00X-1 [mm]
pads (15):
  round 1.5 hole 1.5: 1(-3.7,7.6) 1(3.7,6)
  rect 0.4x1.5 smd: 1(-2.6,10.05) 2(-1.3,10.05) 3(1.3,10.05) 4(2.6,10.05) 5(1.95,10.05) 6(0.65,10.05) 7(0,10.05) 8(-0.65,10.05) 9(-1.95,10.05)
  rect 1.25x1.5 smd: M1(-4,10.05) M2(4,10.05)
  rrect100% 1x1 smd: M3(-3,1.2) M4(3,1.2)
Top Overlay:
  lines w0.102: -5.518,9.506 -5.518,10.052 -5.19,10.052 -5.19,9.615 ; -4.425,9.615 -4.425,10.598 -3.551,10.598 -3.551,9.615 ; -3.66,9.069 -3.66,8.195 ccw(c-3.332,8.195) -3.332,7.867 3.332,7.867 ccw(c3.332,8.194) 3.66,8.195 3.66,9.069 ; -3.551,8.741 -1.694,8.741 ; -2.021,-0.765 -2.021,7.757 ; -1.038,-0.765 -1.038,7.757 ; 1.038,-0.765 1.038,7.757 ; 1.584,8.741 3.551,8.741 ; 2.021,-0.765 2.021,7.757 ; 2.13,9.178 5.19,9.178 cw(c5.19,8.85) 5.517,8.85 5.517,5.354 ; 2.24,9.178 ccw(c2.24,8.631) 1.803,8.959 cw(c0.052,10.273) 1.366,8.522 cw(c1.038,8.959) 1.038,8.413 -1.038,8.413 cw(c-1.038,8.959) -1.366,8.522 cw(c-0.052,10.272) -1.803,8.959 ccw(c-2.24,8.631) -2.24,9.178 -5.19,9.178 ccw(c-5.19,8.85) -5.518,8.85 -5.518,5.354 ; 3.551,9.615 3.551,10.598 4.425,10.598 4.425,9.615 ; 5.19,9.615 5.19,10.052 5.517,10.052 5.517,9.506 ; -5.518,5.354 -5.518,-0.874 5.517,-0.874 5.517,5.354 ; -5.518,5.354 -5.846,5.354 -5.846,8.959 cw(c-5.299,8.959) -5.299,9.506 -2.24,9.506 cw(c-2.24,8.413) -1.584,9.287 cw(c-2.239,8.414) -1.366,9.069 ccw(c-0.493,9.724) -1.147,8.85 ccw(c-0.82,9.287) -0.82,8.741 0.819,8.741 ccw(c0.819,9.287) 1.147,8.85 ccw(c0.493,9.723) 1.366,9.069 cw(c2.238,8.414) 1.584,9.287 cw(c2.24,8.413) 2.24,9.506 5.299,9.506 cw(c5.299,8.959) 5.845,8.959 5.845,5.354 5.517,5.354
Mechanical 1:
  lines w0: -5.75,6.35 ccw(c-5.4,6.35) -5.4,6 ccw(c-5.4,6.35) -5.05,6.35 -5.05,8.75 ccw(c-5.4,8.75) -5.4,9.1 ccw(c-5.4,8.75) -5.75,8.75 -5.75,6.35 ; 5.05,6.35 ccw(c5.4,6.35) 5.4,6 ccw(c5.4,6.35) 5.75,6.35 5.75,8.75 ccw(c5.4,8.75) 5.4,9.1 ccw(c5.4,8.75) 5.05,8.75 5.05,6.35

## 85-32008-10X-1 [mm]
pads (15):
  round 1.5 hole 1.5: 1(-3.7,6) 1(3.7,7.6)
  rect 0.4x1.5 smd: 1(-2.6,10.05) 2(-1.3,10.05) 3(1.3,10.05) 4(2.6,10.05) 5(1.95,10.05) 6(0.65,10.05) 7(0,10.05) 8(-0.65,10.05) 9(-1.95,10.05)
  rect 1.25x1.5 smd: M1(-4,10.05) M2(4,10.05)
  rrect100% 1x1 smd: M3(-3,1.2) M4(3,1.2)
Top Overlay:
  lines w0.102: -5.518,9.506 -5.518,10.052 -5.19,10.052 -5.19,9.615 ; -4.425,9.615 -4.425,10.598 -3.551,10.598 -3.551,9.615 ; -3.66,9.069 -3.66,8.195 ccw(c-3.332,8.195) -3.332,7.867 3.332,7.867 ccw(c3.332,8.194) 3.66,8.195 3.66,9.069 ; -3.551,8.741 -1.694,8.741 ; -2.021,-0.765 -2.021,7.757 ; -1.038,-0.765 -1.038,7.757 ; 1.038,-0.765 1.038,7.757 ; 1.584,8.741 3.551,8.741 ; 2.021,-0.765 2.021,7.757 ; 2.13,9.178 5.19,9.178 cw(c5.19,8.85) 5.517,8.85 5.517,5.354 ; 2.24,9.178 ccw(c2.24,8.631) 1.803,8.959 cw(c0.052,10.273) 1.366,8.522 cw(c1.038,8.959) 1.038,8.413 -1.038,8.413 cw(c-1.038,8.959) -1.366,8.522 cw(c-0.052,10.272) -1.803,8.959 ccw(c-2.24,8.631) -2.24,9.178 -5.19,9.178 ccw(c-5.19,8.85) -5.518,8.85 -5.518,5.354 ; 3.551,9.615 3.551,10.598 4.425,10.598 4.425,9.615 ; 5.19,9.615 5.19,10.052 5.517,10.052 5.517,9.506 ; -5.518,5.354 -5.518,-0.874 5.517,-0.874 5.517,5.354 ; -5.518,5.354 -5.846,5.354 -5.846,8.959 cw(c-5.299,8.959) -5.299,9.506 -2.24,9.506 cw(c-2.24,8.413) -1.584,9.287 cw(c-2.239,8.414) -1.366,9.069 ccw(c-0.493,9.724) -1.147,8.85 ccw(c-0.82,9.287) -0.82,8.741 0.819,8.741 ccw(c0.819,9.287) 1.147,8.85 ccw(c0.493,9.723) 1.366,9.069 cw(c2.238,8.414) 1.584,9.287 cw(c2.24,8.413) 2.24,9.506 5.299,9.506 cw(c5.299,8.959) 5.845,8.959 5.845,5.354 5.517,5.354
Mechanical 1:
  lines w0: -5.75,6.35 ccw(c-5.4,6.35) -5.4,6 ccw(c-5.4,6.35) -5.05,6.35 -5.05,8.75 ccw(c-5.4,8.75) -5.4,9.1 ccw(c-5.4,8.75) -5.75,8.75 -5.75,6.35 ; 5.05,6.35 ccw(c5.4,6.35) 5.4,6 ccw(c5.4,6.35) 5.75,6.35 5.75,8.75 ccw(c5.4,8.75) 5.4,9.1 ccw(c5.4,8.75) 5.05,8.75 5.05,6.35

## 32003-40XA [mm]
pads (22):
  round 1.27 hole 0.92: 1-1(2.71,-3.5) 1-2(2.71,-1) 1-3(2.71,1) 1-4(2.71,3.5) 2-1(5.33,-3.5) 2-2(5.33,-1) 2-3(5.33,1) 2-4(5.33,3.5) 3-1(7.95,-3.5) 3-2(7.95,-1) 3-3(7.95,1) 3-4(7.95,3.5) 4-1(10.57,-3.5) 4-2(10.57,-1) 4-3(10.57,1) 4-4(10.57,3.5)
  round 3 hole 2.3: M1(0,6.57) M2(0,-6.57) M3(5.68,6.57) M4(5.68,-6.57)
  oval 3.2x1.6 hole 1.2: M5(11.1,6.45) M6(11.1,-6.45)
Top Overlay:
  lines w0.102: -1.925,6.6 -9.775,6.6 -9.775,7.2 -10.225,7.2 -10.225,-7.2 -9.775,-7.2 -9.775,-6.6 -1.825,-6.6 ; 1.85,-6.6 3.75,-6.6 ; 1.975,6.6 3.85,6.6 ; 7.5,-6.6 9.075,-6.6 ; 7.5,6.6 9.225,6.6 ; 13.125,6.6 14.375,6.6 14.375,-6.6 13.15,-6.6 ; -8.828,-2.544 ccw(c-8.546,-2.457) -8.568,-2.751 -5.817,-2.959 -5.817,-2.751 -8.205,-2.492 -8.205,-1.973 -5.817,-1.713 -5.817,-1.505 -8.568,-1.765 ccw(c-8.546,-2.059) -8.828,-1.973 ccw(c-7.897,-2.258) -8.828,-2.544 ; -8.828,1.973 cw(c-7.897,2.258) -8.828,2.544 cw(c-8.546,2.457) -8.568,2.751 -5.817,2.959 -5.817,2.751 -8.205,2.492 -8.205,1.973 -5.817,1.713 -5.817,1.505 -8.568,1.765 cw(c-8.546,2.059) -8.828,1.973
Mechanical 11:
  lines w0: 9.95,-6.45 ccw(c10.55,-6.45) 10.55,-7.05 11.65,-7.05 ccw(c11.65,-6.45) 12.25,-6.45 ccw(c11.65,-6.45) 11.65,-5.85 10.55,-5.85 ccw(c10.55,-6.45) 9.95,-6.45 ; 9.95,6.45 ccw(c10.55,6.45) 10.55,5.85 11.65,5.85 ccw(c11.65,6.45) 12.25,6.45 ccw(c11.65,6.45) 11.65,7.05 10.55,7.05 ccw(c10.55,6.45) 9.95,6.45
Mechanical 16:
  lines w0.102: -1.925,6.6 1.975,6.6 ; -1.825,-6.6 1.85,-6.6 ; 3.75,-6.6 7.5,-6.6 ; 3.85,6.6 7.5,6.6 ; 9.075,-6.6 13.15,-6.6 ; 9.225,6.6 13.125,6.6